# EAGLE library part CON_1776904 (library wheat)
Connector, AMP CPC 17-16 RA PCB
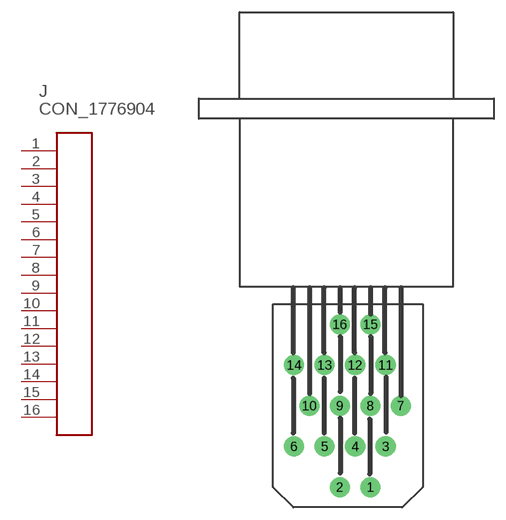
[diagram p130: symbol with the pads of CON_1776904; footprint CON_1776904]

Designator prefix J

## CON_1776904  [CON_1776904]
1  P$1  pas
2  P$2  pas
3  P$3  pas
4  P$4  pas
5  P$5  pas
6  P$6  pas
7  P$7  pas
8  P$8  pas
9  P$9  pas
10  P$10  pas
11  P$11  pas
12  P$12  pas
13  P$13  pas
14  P$14  pas
15  P$15  pas
16  P$16  pas

## Footprint CON_1776904 (pad centres in mm)
Connector, AMP CPC 17-16 RA PCB AMP 1776904-1
drill 1.676: 1 2.997,-48.514; 2 -0.813,-48.514; 3 4.902,-43.434; 4 1.092,-43.434; 5 -2.718,-43.434; 6 -6.528,-43.434; 7 6.807,-38.354; 8 2.997,-38.354; 9 -0.813,-38.354; 10 -4.623,-38.354; 11 4.902,-33.274; 12 1.092,-33.274; 13 -2.718,-33.274; 14 -6.528,-33.274; 15 2.997,-28.194; 16 -0.813,-28.194